# EAGLE library part FAN3278TMX (library FSAE Eletric)
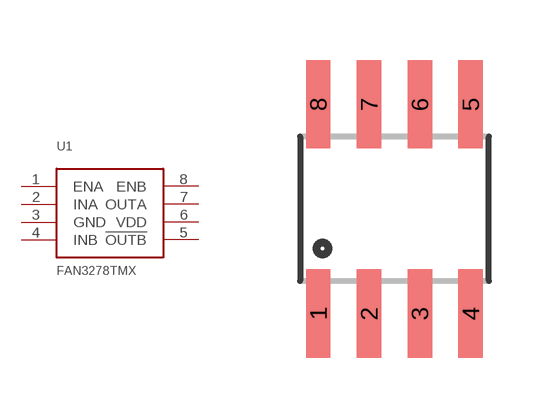
[diagram p55: symbol with the pads of SO-8; footprint SO-8]

Designator prefix U1

## FAN3278TMX  [SO-8]
1  ENA
2  INA
3  GND
4  INB
5  !OUTB
6  VDD
7  OUTA
8  ENB

## Footprint SO-8 (pad centres in mm)
smd 0.61 x 2.21: 1 -1.905,-2.616; 2 -0.635,-2.616; 3 0.635,-2.616; 4 1.905,-2.616; 5 1.905,2.616; 6 0.635,2.616; 7 -0.635,2.616; 8 -1.905,2.616